# EAGLE library part B8B-PH-K-S (library con-JST-PH)
JST-PH 8-way vertical TH
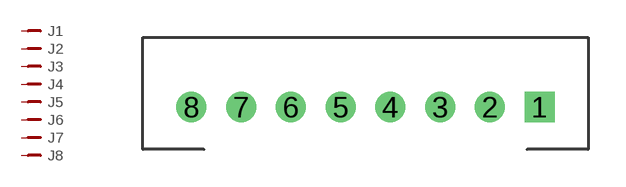
[diagram p1: symbol with the pads of B8B-PH-K-S; footprint B8B-PH-K-S]

Designator prefix J; gates 1=PM-N 2=PM-N 3=PM-N 4=PM-N 5=PM-N 6=PM-N 7=PM-N 8=PM-N

## B8B-PH-K-S  [B8B-PH-K-S]
1  1:1  pas
2  2:1  pas
3  3:1  pas
4  4:1  pas
5  5:1  pas
6  6:1  pas
7  7:1  pas
8  8:1  pas

## Footprint B8B-PH-K-S (pad centres in mm)
JST-PH (2mm) 8-pin through-hole Wire-Board connector
drill 0.7 square: 1 7,0
drill 0.7: 2 5,0; 3 3,0; 4 1,0; 5 -1,0; 6 -3,0; 7 -5,0; 8 -7,0